# EAGLE library part AUDIO-CSC4863 (library Namenlos)
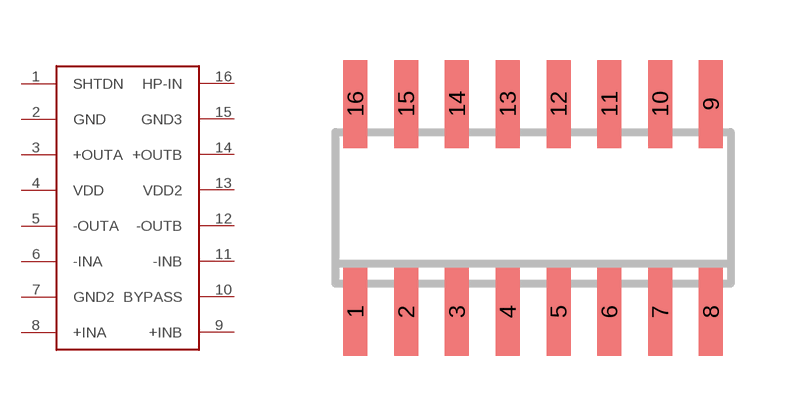
[diagram p8: symbol with the pads of SO16; footprint SO16]

Designator prefix -

## AUDIO-CSC4863  [SO16]
1  SHTDN
2  GND
3  +OUTA
4  VDD
5  -OUTA
6  -INA
7  GND2
8  +INA
9  +INB
10  BYPASS
11  -INB
12  -OUTB
13  VDD2
14  +OUTB
15  GND3
16  HP-IN

## Footprint SO16 (pad centres in mm)
smd 0.6 x 2.2: 1 -4.445,-2.6; 2 -3.175,-2.6; 3 -1.905,-2.6; 4 -0.635,-2.6; 5 0.635,-2.6; 6 1.905,-2.6; 7 3.175,-2.6; 8 4.445,-2.6; 9 4.445,2.6; 10 3.175,2.6; 11 1.905,2.6; 12 0.635,2.6; 13 -0.635,2.6; 14 -1.905,2.6; 15 -3.175,2.6; 16 -4.445,2.6